# Altium footprint library PcbLib1.PcbLib: 5 footprints
Each footprint in its own frame and in the unit in brackets; x right, y up, seen from the top. Pads: shape width x height; smd on the part's side, far side on the other; paste and mask are expansions set on the pad; w line width, h text height; cw(c..) or ccw(c..) is an arc to the next point about the centre after c.
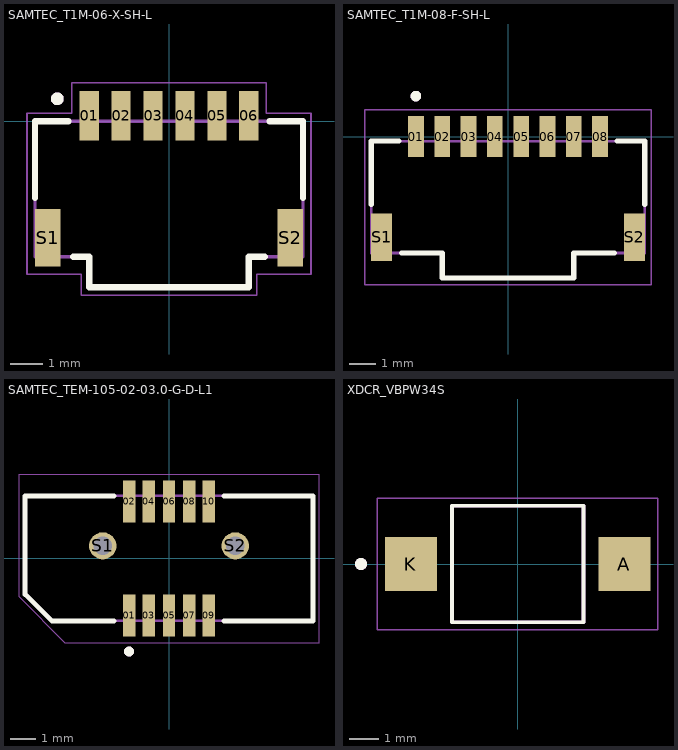
[diagram p0: the footprints below, top view; thin cyan lines are the x and y axes]

## PCBComponent_1 [mm]

## SAMTEC_T1M-06-X-SH-L [mm]
pads (8):
  rect 0.6x1.55 smd: 01(-2.5,0.175) 02(-1.5,0.175) 03(-0.5,0.175) 04(0.5,0.175) 05(1.5,0.175) 06(2.5,0.175)
  rect 0.8x1.8 smd: S1(-3.8,-3.65) S2(3.8,-3.65)
Top Overlay:
  circle w0.2: c-3.5,0.7 r0.1
  lines w0.2: -4.2,-2.4 -4.2,0 -3.15,0 ; -3,-4.25 -2.5,-4.25 -2.5,-5.2 2.5,-5.2 2.5,-4.25 3,-4.25 ; 3.15,0 4.2,0 4.2,-2.4
Mechanical 13:
  circle w0.2: c-3.5,0.7 r0.1
  lines w0.1: -4.2,-4.25 -2.5,-4.25 -2.5,-5.2 2.5,-5.2 2.5,-4.25 4.2,-4.25 4.2,0 -4.2,0 -4.2,-4.25
Mechanical 15:
  lines w0.05: -4.45,-4.8 -2.75,-4.8 -2.75,-5.45 2.75,-5.45 2.75,-4.8 4.45,-4.8 4.45,0.25 3.05,0.25 3.05,1.2 -3.05,1.2 -3.05,0.25 -4.45,0.25 -4.45,-4.8
3D body "T1M-06-F-SH-L-K.stp": height 4.72, standoff -0.01, extent -4.2,-5.207 4.2,0.692

## SAMTEC_T1M-08-F-SH-L [mm]
pads (10):
  rect 0.6x1.55 smd: 01(-3.5,0) 02(-2.5,0) 03(-1.5,0) 04(-0.5,0) 05(0.5,0) 06(1.5,0) 07(2.5,0) 08(3.5,0)
  rect 0.8x1.8 smd: S1(-4.8,-3.825) S2(4.8,-3.825)
Top Overlay:
  circle w0.2: c-3.5,1.535 r0.1
  lines w0.2: -5.2,-2.575 -5.2,-0.175 -4.15,-0.175 ; -4.05,-4.425 -2.5,-4.425 -2.5,-5.375 2.5,-5.375 2.5,-4.425 4.05,-4.425 ; 4.15,-0.175 5.2,-0.175 5.2,-2.575
Mechanical 13:
  circle w0.2: c-3.5,1.535 r0.1
  lines w0.1: -5.2,-4.425 -5.2,-0.175 5.2,-0.175 5.2,-4.425 2.5,-4.425 2.5,-5.375 -2.5,-5.375 -2.5,-4.425 -5.2,-4.425
Mechanical 15:
  lines w0.05: -5.45,-5.625 -5.45,1.025 5.45,1.025 5.45,-5.625 -5.45,-5.625
3D body "T1M-08-F-SH-L.stp": height 4.61, standoff 0.01, extent -5.2,-5.327 5.2,0.572

## SAMTEC_TEM-105-02-03.0-G-D-L1 [mm]
pads (12):
  rect 0.5x1.69 smd: 01(-1.6,-2.28) 02(-1.6,2.28) 03(-0.8,-2.28) 04(-0.8,2.28) 05(0,-2.28) 06(0,2.28) 07(0.8,-2.28) 08(0.8,2.28) 09(1.6,-2.28) 10(1.6,2.28)
  round 1.09 hole 0.74: S1(-2.65,0.5) S2(2.65,0.5)
Top Overlay:
  circle w0.2: c-1.6,-3.725 r0.1
  lines w0.2: -2.2,-2.5 -4.685,-2.5 -5.75,-1.435 -5.75,2.5 -2.2,2.5 ; 2.2,-2.5 5.75,-2.5 5.75,2.5 2.2,2.5
Top Paste:
  circle w1.145: c2.8,0.25 r0.573
  circle w1.145: c-2.8,0.25 r0.573
Mechanical 13:
  circle w0.2: c-1.6,-3.725 r0.1
  lines w0.1: -5.75,-1.435 -4.685,-2.5 5.75,-2.5 5.75,2.5 -5.75,2.5 -5.75,-1.435
Mechanical 15:
  lines w0.05: -6,-1.539 -4.164,-3.375 6,-3.375 6,3.375 -6,3.375 -6,-1.539
3D body "TEM-105-02-03.0-G-D-L1.stp": height 6.65, standoff -1.64, extent -5.715,-2.623 5.785,2.877

## XDCR_VBPW34S [mm]
pads (2):
  rect 1.75x1.8 smd: A(3.575,0) K(-3.575,0)
Top Overlay:
  circle w0.2: c-5.25,0 r0.1
  lines w0.127: -2.2,-1.95 2.2,-1.95 2.2,1.95 -2.2,1.95 -2.2,-1.95
Mechanical 13:
  circle w0.2: c-5.25,0 r0.1
  lines w0.127: -2.2,-1.95 -2.2,1.95 2.2,1.95 2.2,-1.95 -2.2,-1.95
Mechanical 15:
  lines w0.05: -4.7,-2.2 -4.7,2.2 4.7,2.2 4.7,-2.2 -4.7,-2.2
3D body "VBPW34S--3DModel-STEP-269445.STEP": height 1.4, standoff 0, extent -3.073,-1.95 3.327,1.95